# Altium footprint library Pilot.PcbLib: 39 footprints (part 2 of 3)
Each footprint in its own frame and in the unit in brackets; x right, y up, seen from the top. Pads: shape width x height; smd on the part's side, far side on the other; paste and mask are expansions set on the pad; w line width, h text height; cw(c..) or ccw(c..) is an arc to the next point about the centre after c.
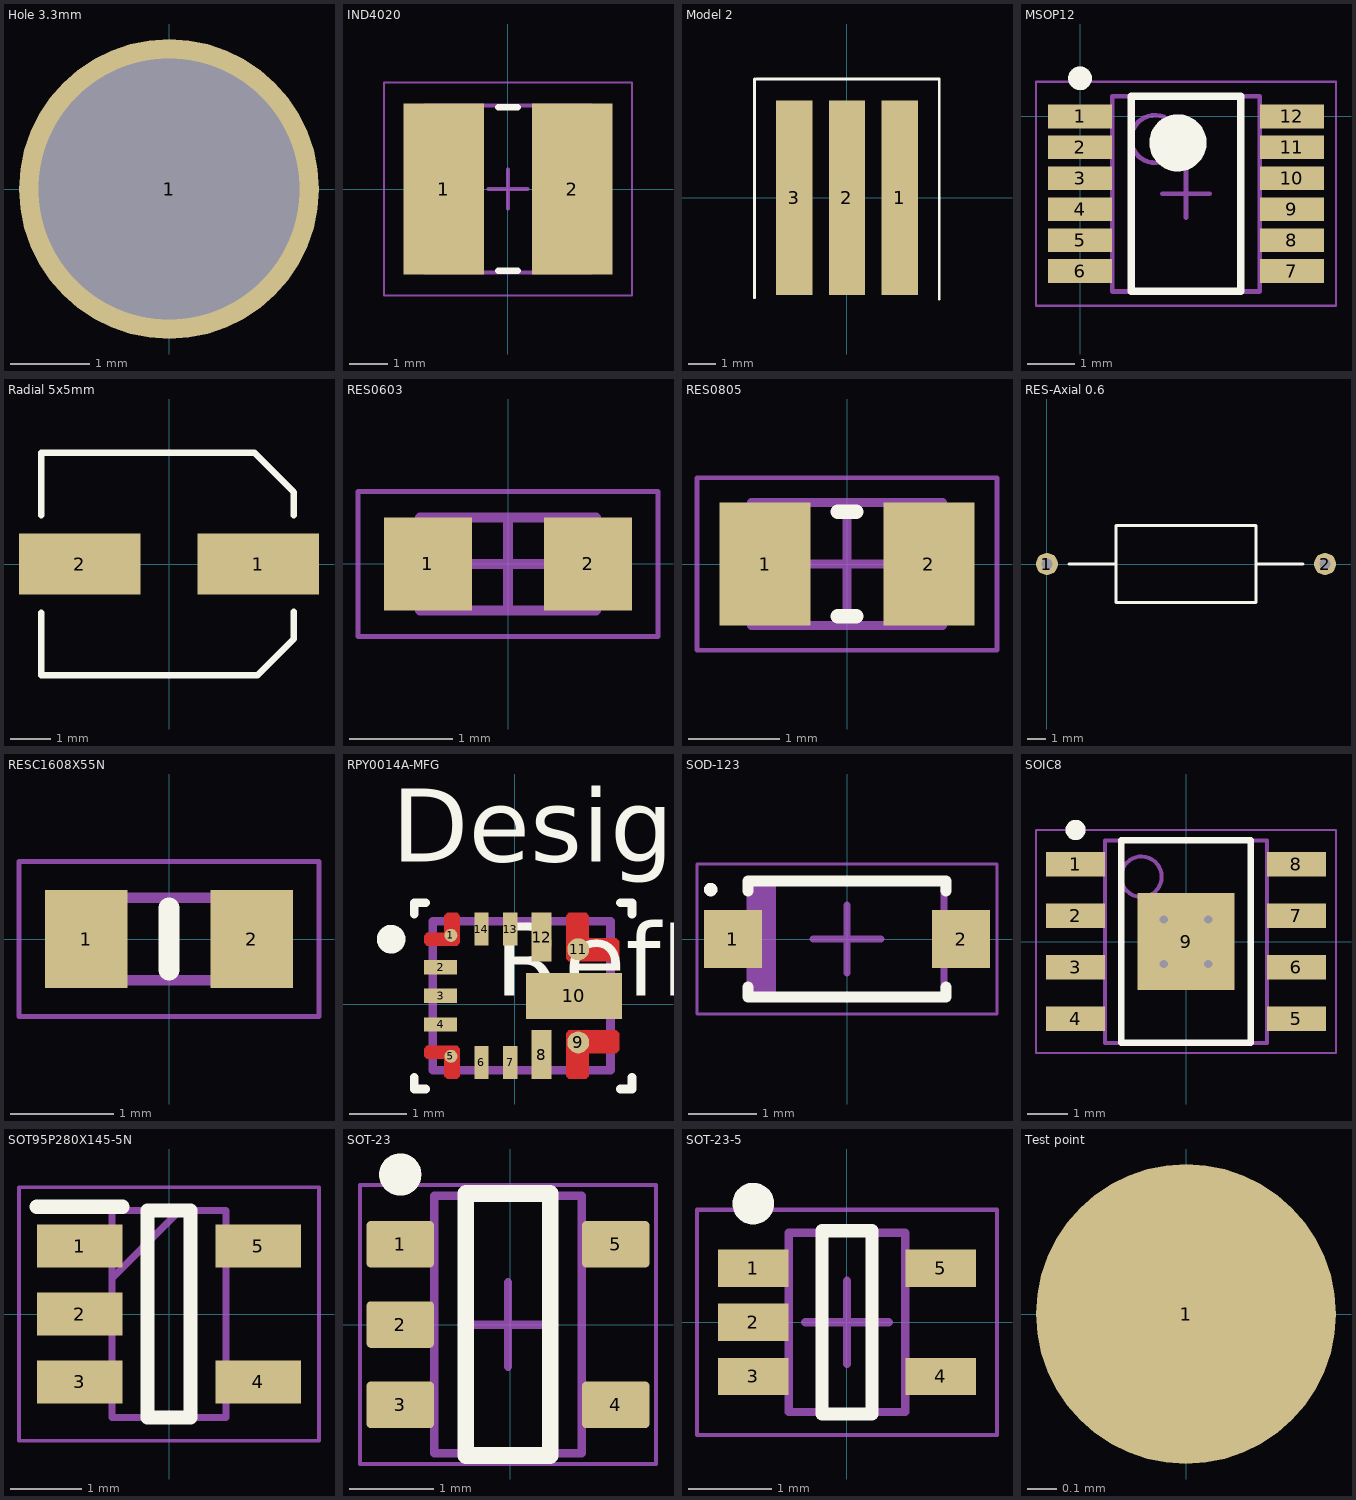
[diagram p1: the footprints below, top view; thin cyan lines are the x and y axes]

## Hole 3.3mm [mm]
pads (1):
  round 3.8 hole 3.3: 1(0,0)

## IND4020 [mm] "Chip Inductor, 2-Leads, Body 4.10x4.10mm, IPC Low Density"
height 2.1
pads (2):
  rect 2.08x4.42 smd: 1(-1.66,0) 2(1.66,0)
Top Overlay:
  lines w0.16: -0.25,-2.11 0.25,-2.11 ; -0.25,2.11 0.25,2.11
Mechanical 13:
  lines w0.1: -2.15,-2.15 -2.15,2.15 2.15,2.15 2.15,-2.15 -2.15,-2.15
Mechanical 15:
  lines w0.05: -3.2,-2.75 -3.2,2.75 3.2,2.75 3.2,-2.75 -3.2,-2.75
  lines w0.1: -0.5,0 0.5,0 ; 0,-0.5 0,0.5
3D body "Download_STP_WE-MAPI_4020+(rev1).stp": height 2.11, standoff 0.01, extent -2.05,-2.05 2.05,2.05

## Model 2 [mm]
pads (3):
  rect 1.3x7 smd: 1(1.9,0) 2(0,0) 3(-1.9,0)
Top Overlay:
  lines w0.1: -3.325,-3.6 -3.325,4.275 ; -3.275,4.275 3.325,4.275 3.325,-3.65

## MSOP12 [mm] "MSOP, 12-Leads, Body 4.04x3.00mm, Pitch 0.65mm, IPC Medium Density"
height 1.1
pads (12):
  rect 1.35x0.5 smd: 1(0,0) 2(0,-0.65) 3(0,-1.3) 4(0,-1.95) 5(0,-2.6) 6(0,-3.25) 7(4.45,-3.25) 8(4.45,-2.6) 9(4.45,-1.95) 10(4.45,-1.3) 11(4.45,-0.65) 12(4.45,0)
Top Overlay:
  circle w0.6: c2.055,-0.555 r0.3
  circle w0.25: c0,0.8 r0.125
  lines w0.16: 1.075,-3.675 3.375,-3.675 3.375,0.425 1.075,0.425 1.075,-3.675
Top Courtyard:
  lines w0.05: -0.925,-3.975 5.375,-3.975 5.375,0.725 -0.925,0.725 -0.925,-3.975
  lines w0.1: 1.725,-1.625 2.725,-1.625 ; 2.225,-2.125 2.225,-1.125
Top Assembly:
  circle w0.1: c1.575,-0.475 r0.5
  lines w0.1: 0.675,-3.675 3.775,-3.675 3.775,0.425 0.675,0.425 0.675,-3.675
3D body "MSOP12.step": height 1.1, standoff 0, extent -0.225,-3.675 4.675,0.425

## Radial 5x5mm [mm]
pads (2):
  rect 3x1.5 smd: 1(2.2,0) 2(-2.2,0)
Top Overlay:
  lines w0.16: -3.15,-1.2 -3.15,-2.75 1,-2.75 2.175,-2.75 3.075,-1.85 3.075,-1.6 ; -3.15,1.2 -3.15,2.75 1,2.75 2.1,2.75 3.075,1.775 3.075,1.2 ; 3.075,-1.725 3.075,-1.175
3D body "Download_STP_875105x4200x+(rev1).stp": height 5.51, standoff 0.01, extent -3,-2.65 3,2.65

## RES0603 [mm] "Chip Resistor, 2-Leads, Body 1.60x0.80mm, IPC Medium Density"
height 0.55
pads (2):
  rect 0.85x0.9 smd: 1(-0.775,0) 2(0.775,0)
Mechanical 13:
  lines w0.1: -0.85,-0.45 -0.85,0.45 0.85,0.45 0.85,-0.45 -0.85,-0.45
Mechanical 15:
  lines w0.05: -1.45,-0.7 -1.45,0.7 1.45,0.7 1.45,-0.7 -1.45,-0.7
  lines w0.1: -0.45,0 0.45,0 ; 0,-0.45 0,0.45
3D body "RES0603.step": height 0.55, standoff 0, extent -0.85,-0.45 0.85,0.45

## RES0805 [mm] "Chip Resistor, 2-Leads, Body 2.00x1.25mm, IPC Medium Density"
height 0.6
pads (2):
  rect 1x1.35 smd: 1(-0.9,0) 2(0.9,0)
Top Overlay:
  lines w0.16: -0.1,-0.575 0.1,-0.575 ; -0.1,0.575 0.1,0.575
Top Courtyard:
  lines w0.05: -1.65,-0.95 -1.65,0.95 1.65,0.95 1.65,-0.95 -1.65,-0.95
  lines w0.1: -0.5,0 0.5,0 ; 0,-0.5 0,0.5
Top Assembly:
  lines w0.1: -1.05,-0.675 -1.05,0.675 1.05,0.675 1.05,-0.675 -1.05,-0.675
3D body "RES0805.step": height 0.6, standoff 0, extent -1.05,-0.675 1.05,0.675

## RES-Axial 0.6 [mm]
pads (2):
  round 1.2 hole 0.6: 1(0,0) 2(15.2,0)
Top Overlay:
  lines w0.16: 1.2,0 3.775,0 ; 11.425,0 14,0 ; 3.775,0 3.775,2.1 11.425,2.1 11.425,-2.1 3.775,-2.1 3.775,0

## RESC1608X55N [mm]
pads (2):
  rect 0.8x0.95 smd: 1(-0.8,0) 2(0.8,0)
Top Overlay:
  lines w0.2: 0,-0.3 0,0.3
Mechanical 13:
  lines w0.1: -0.8,-0.4 0.8,-0.4 0.8,0.4 -0.8,0.4 -0.8,-0.4
Mechanical 15:
  lines w0.05: -1.45,-0.75 1.45,-0.75 1.45,0.75 -1.45,0.75 -1.45,-0.75
3D body "RC0603FR-070RL.stp": height 0.46, standoff 0, extent -0.8,-0.4 0.8,0.4

## RPY0014A-MFG [mm]
pads (14):
  round 0.226 smd paste-0.1 mask-0.102: 1(-1.116,1.205) 5(-1.116,-0.905)
  rect 0.575x0.25 smd paste+0 mask-0.279: 2(-1.296,0.65) 3(-1.296,0.15) 4(-1.296,-0.35)
  rect 0.25x0.575 smd paste+0 mask-0.279: 6(-0.583,-1.013) 7(-0.083,-1.013) 13(-0.083,1.313) 14(-0.583,1.313)
  rect 0.35x0.85 smd paste+0 mask-0.406: 8(0.467,-0.875) 12(0.467,1.175)
  round 0.382 smd paste-0.179 mask-0.178: 9(1.104,-0.662) 11(1.104,0.962)
  rect 1.675x0.8 smd paste-0.825 mask-0.826: 10(1.03,0.15)
Top Layer:
  region: -1.583,1.075 -1.583,1.2 -1.533,1.25 -1.233,1.25 -1.233,1.55 -1.183,1.6 -1.008,1.6 -0.958,1.55 -0.958,1.075 -1.008,1.025 -1.533,1.025
  region: -1.583,-0.775 -1.583,-0.9 -1.533,-0.95 -1.233,-0.95 -1.233,-1.25 -1.183,-1.3 -1.008,-1.3 -0.958,-1.25 -0.958,-0.775 -1.008,-0.725 -1.533,-0.725
  region: 0.892,-1.25 0.892,-0.5 0.942,-0.45 1.767,-0.45 1.817,-0.5 1.817,-0.8 1.767,-0.85 1.292,-0.85 1.292,-1.25 1.242,-1.3 0.942,-1.3
  region: 0.892,1.55 0.892,0.8 0.942,0.75 1.767,0.75 1.817,0.8 1.817,1.1 1.767,1.15 1.292,1.15 1.292,1.55 1.242,1.6 0.942,1.6
Top Overlay:
  circle w0.25: c-2.158,1.138 r0.125
  lines w0.15: -1.758,-1.275 -1.758,-1.475 -1.558,-1.475 ; -1.758,1.575 -1.758,1.775 -1.558,1.775 ; 1.842,-1.475 2.042,-1.475 2.042,-1.275 ; 1.842,1.775 2.042,1.775 2.042,1.575
  text "RefDes" at -0.35,0.15 h1.27
  text "Designator675" at -2.144,2.487 h1.27
Top Paste:
  region: -1.583,1.075 -1.583,1.2 -1.533,1.25 -1.183,1.25 -1.183,1.55 -1.133,1.6 -1.008,1.6 -0.958,1.55 -0.958,1.075 -1.008,1.025 -1.533,1.025
  region: -1.583,-0.775 -1.583,-0.9 -1.533,-0.95 -1.183,-0.95 -1.183,-1.25 -1.133,-1.3 -1.008,-1.3 -0.958,-1.25 -0.958,-0.775 -1.008,-0.725 -1.533,-0.725
  region: 0.892,-1.25 0.892,-0.5 0.942,-0.45 1.767,-0.45 1.817,-0.5 1.817,-0.75 1.767,-0.8 1.242,-0.8 1.242,-1.25 1.192,-1.3 0.942,-1.3
  region: 0.892,1.55 0.892,0.8 0.942,0.75 1.767,0.75 1.817,0.8 1.817,1.05 1.767,1.1 1.242,1.1 1.242,1.55 1.192,1.6 0.942,1.6
  region: 0.33,0.5 1.767,0.5 1.817,0.45 1.817,0.325 1.767,0.275 1.429,0.275 1.429,0.025 1.767,0.025 1.817,-0.025 1.817,-0.15 1.767,-0.2 0.33,-0.2 0.28,-0.15 0.28,0.45
Top Solder:
  region: 0.292,0.5 1.767,0.5 1.817,0.45 1.817,0.325 1.767,0.275 1.467,0.275 1.467,0.025 1.767,0.025 1.817,-0.025 1.817,-0.15 1.767,-0.2 0.292,-0.2 0.242,-0.15 0.242,0.45
  region: -1.058,0.825 -0.958,0.725 -0.958,0.575 -1.058,0.475 -1.533,0.475 -1.633,0.575 -1.633,0.725 -1.533,0.825
  region: -1.533,0.325 -1.058,0.325 -0.958,0.225 -0.958,0.075 -1.058,-0.025 -1.533,-0.025 -1.633,0.075 -1.633,0.225
  region: -1.633,-0.425 -1.633,-0.275 -1.533,-0.175 -1.058,-0.175 -0.958,-0.275 -0.958,-0.425 -1.058,-0.525 -1.533,-0.525
  region: -0.408,-0.775 -0.408,-1.25 -0.508,-1.35 -0.658,-1.35 -0.758,-1.25 -0.758,-0.775 -0.658,-0.675 -0.508,-0.675
  region: -0.758,1.55 -0.658,1.65 -0.508,1.65 -0.408,1.55 -0.408,1.075 -0.508,0.975 -0.658,0.975 -0.758,1.075
  region: -0.158,0.975 -0.258,1.075 -0.258,1.55 -0.158,1.65 -0.008,1.65 0.092,1.55 0.092,1.075 -0.008,0.975
  region: -0.008,-0.675 0.092,-0.775 0.092,-1.25 -0.008,-1.35 -0.158,-1.35 -0.258,-1.25 -0.258,-0.775 -0.158,-0.675
  region: 0.592,1.65 0.692,1.55 0.692,0.8 0.592,0.7 0.342,0.7 0.242,0.8 0.242,1.55 0.342,1.65
  region: 0.692,-0.5 0.692,-1.25 0.592,-1.35 0.342,-1.35 0.242,-1.25 0.242,-0.5 0.342,-0.4 0.592,-0.4
  region: -1.633,-0.775 -1.633,-0.9 -1.533,-1 -1.283,-1 -1.283,-1.25 -1.183,-1.35 -1.008,-1.35 -0.908,-1.25 -0.908,-0.775 -1.008,-0.675 -1.533,-0.675
  region: -1.633,1.075 -1.633,1.2 -1.533,1.3 -1.283,1.3 -1.283,1.55 -1.183,1.65 -1.008,1.65 -0.908,1.55 -0.908,1.075 -1.008,0.975 -1.533,0.975
  region: 0.842,1.55 0.842,0.8 0.942,0.7 1.767,0.7 1.867,0.8 1.867,1.1 1.767,1.2 1.342,1.2 1.342,1.55 1.242,1.65 0.942,1.65
  region: 0.842,-1.25 0.842,-0.5 0.942,-0.4 1.767,-0.4 1.867,-0.5 1.867,-0.8 1.767,-0.9 1.342,-0.9 1.342,-1.25 1.242,-1.35 0.942,-1.35
Mechanical 13:
  lines w0.15: -1.433,-1.15 1.667,-1.15 1.667,1.45 -1.433,1.45 -1.433,-1.15
3D body "RPY0014A.stp": height 1.01, standoff 0.01, extent -1.375,-1.1 1.625,1.4

## SOD-123 [mm] "Molded Diode, 2-Leads, Body 2.70x1.55mm, IPC Medium Density"
height 1.3
pads (2):
  rect 0.85x0.85 smd: 1(-1.675,0) 2(1.675,0)
Top Overlay:
  circle w0.1: c-2,0.725 r0.05
  lines w0.16: -1.45,-0.705 -1.45,-0.85 1.45,-0.85 1.45,-0.705 ; -1.45,0.705 -1.45,0.85 1.45,0.85 1.45,0.705
Top Courtyard:
  lines w0.05: -2.2,-1.1 2.2,-1.1 2.2,1.1 -2.2,1.1 -2.2,-1.1
  lines w0.1: -0.5,0 0.5,0 ; 0,-0.5 0,0.5
Top Assembly:
  rectangle: -1.425,-0.85 -1.042,0.85
  lines w0.1: -1.425,-0.85 1.425,-0.85 1.425,0.85 -1.425,0.85 -1.425,-0.85
3D body "SOD-123.step": height 1.3, standoff 0, extent -1.645,-0.85 1.645,0.85

## SOIC8 [mm] "SOIC, 8-Leads, Body 4.90x3.93mm, Pitch 1.27mm, Thermal Pad 2.39x2.39mm, IPC Medium Density"
height 1.75
pads (9):
  rect 1.45x0.6 smd: 1(-2.725,1.905) 2(-2.725,0.635) 3(-2.725,-0.635) 4(-2.725,-1.905) 5(2.725,-1.905) 6(2.725,-0.635) 7(2.725,0.635) 8(2.725,1.905)
  rect 2.39x2.39 smd: 9(0,0)
via 0.55,-0.55 diameter 0.5 hole 0.2
via -0.55,-0.55 diameter 0.5 hole 0.2
via 0.55,0.55 diameter 0.5 hole 0.2
via -0.55,0.55 diameter 0.5 hole 0.2
Top Overlay:
  circle w0.25: c-2.725,2.755 r0.125
  lines w0.16: -1.6,-2.5 1.6,-2.5 1.6,2.5 -1.6,2.5 -1.6,-2.5
Top Courtyard:
  lines w0.05: -3.7,-2.75 3.7,-2.75 3.7,2.75 -3.7,2.75 -3.7,-2.75
  lines w0.1: -0.5,0 0.5,0 ; 0,-0.5 0,0.5
Top Assembly:
  circle w0.1: c-1.1,1.6 r0.5
  lines w0.1: -2,-2.5 2,-2.5 2,2.5 -2,2.5 -2,-2.5
3D body "SOIC8.step": height 1.75, standoff 0, extent -2.997,-2.5 2.997,2.5

## SOT95P280X145-5N [mm]
pads (5):
  rect 1.2x0.6 smd: 1(-1.25,0.95) 2(-1.25,0) 3(-1.25,-0.95) 4(1.25,-0.95) 5(1.25,0.95)
Top Overlay:
  lines w0.2: -1.85,1.5 -0.65,1.5 ; -0.3,-1.45 -0.3,1.45 0.3,1.45 0.3,-1.45 -0.3,-1.45
Mechanical 13:
  lines w0.1: -0.8,0.5 0.15,1.45 ; -0.8,-1.45 -0.8,1.45 0.8,1.45 0.8,-1.45 -0.8,-1.45
Mechanical 15:
  lines w0.05: -2.1,-1.775 -2.1,1.775 2.1,1.775 2.1,-1.775 -2.1,-1.775
3D body "OPA376AIDBVR.stp": height 1.2, standoff 0, extent -1.4,-1.45 1.4,1.45

## SOT-23 [mm]
pads (5):
  rrect18% 0.8x0.55 smd: 1(-1.3,0.95) 2(-1.3,0) 3(-1.3,-0.95) 4(1.25,-0.95) 5(1.25,0.95)
Top Overlay:
  circle w0.25: c-1.3,1.775 r0.125
  lines w0.2: -0.525,-1.55 0.475,-1.55 0.475,1.55 -0.525,1.55 -0.525,-1.55
Mechanical 1:
  text ".Designator" at -0.66,-0.254 h0.4
Mechanical 13:
  lines w0.1: -0.9,-1.525 -0.9,1.525 0.85,1.525 0.85,-1.525 -0.9,-1.525
Mechanical 15:
  lines w0.05: -1.775,-1.65 -1.775,1.65 1.725,1.65 1.725,-1.65 -1.775,-1.65
  lines w0.1: -0.525,0 0.475,0 ; -0.025,-0.5 -0.025,0.5
3D body "DBV0005AaksMF05A.stp": height 1.08, standoff -0.01, extent -1.447,-1.461 1.397,1.46

## SOT-23-5 [mm] "SOT23, 5-Leads, Body 2.00x2.10mm, Pitch 0.65mm, IPC Medium Density"
height 1.1
pads (5):
  rect 0.85x0.45 smd: 1(-1.125,0.65) 2(-1.125,0) 3(-1.125,-0.65) 4(1.125,-0.65) 5(1.125,0.65)
Top Overlay:
  circle w0.25: c-1.125,1.425 r0.125
  lines w0.16: -0.3,-1.1 0.3,-1.1 0.3,1.1 -0.3,1.1 -0.3,-1.1
Mechanical 13:
  lines w0.1: -0.7,-1.075 -0.7,1.075 0.7,1.075 0.7,-1.075 -0.7,-1.075
Mechanical 15:
  lines w0.05: -1.8,-1.35 -1.8,1.35 1.8,1.35 1.8,-1.35 -1.8,-1.35
  lines w0.1: -0.5,0 0.5,0 ; 0,-0.5 0,0.5
3D body "SOT-23-5.step": height 1.1, standoff 0, extent -1.2,-1.075 1.2,1.075

## Test point [mil]
pads (1):
  round 40 smd: 1(0,0)